# Altium integrated library CON_6PIN_BATT_DEFIBRILLATOR.IntLib: 1 symbol
Pins are listed as number, name and electrical type; pins without a type are passive.

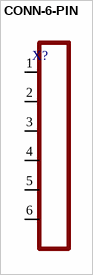
[diagram p0: symbol CONN-6-PIN]

## CONN-6-PIN
designator X?
footprint CON_6PIN_BATT_DEFIBRILLATOR
pins: 1, 2, 3, 4, 5, 6